# Altium footprint library STM32.pcblib: 4 footprints
Each footprint in its own frame and in the unit in brackets; x right, y up, seen from the top. Pads: shape width x height; smd on the part's side, far side on the other; paste and mask are expansions set on the pad; w line width, h text height; cw(c..) or ccw(c..) is an arc to the next point about the centre after c.
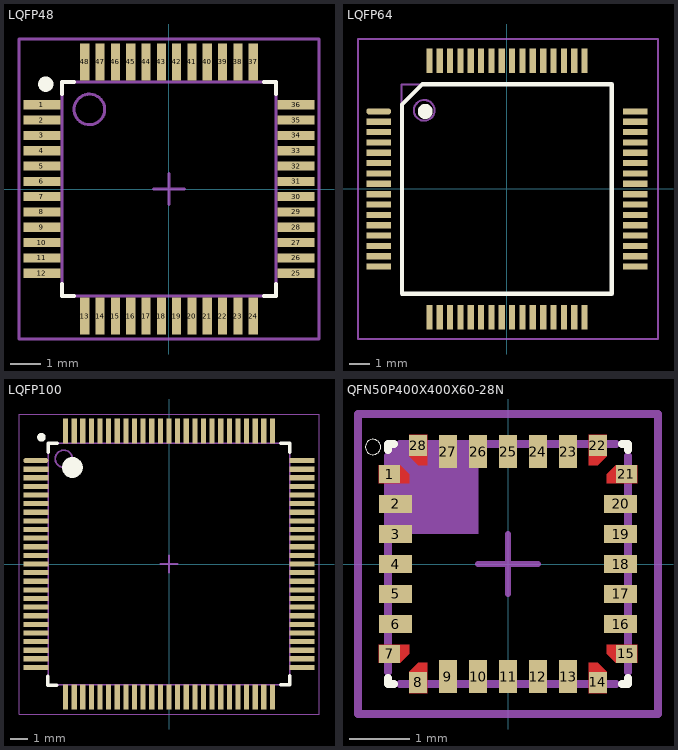
[diagram p0: the footprints below, top view; thin cyan lines are the x and y axes]

## LQFP48 [mm] "LQFP48 – 7 x 7 mm, 48-pin low-profile quad flat  package outline"
height 1.6
pads (48):
  rect 1.2x0.3 smd: 1(-4.152,2.75) 2(-4.152,2.25) 3(-4.152,1.75) 4(-4.152,1.25) 5(-4.152,0.75) 6(-4.152,0.25) 7(-4.152,-0.25) 8(-4.152,-0.75) 9(-4.152,-1.25) 10(-4.152,-1.75) 11(-4.152,-2.25) 12(-4.152,-2.75) 25(4.152,-2.75) 26(4.152,-2.25) 27(4.152,-1.75) 28(4.152,-1.25) 29(4.152,-0.75) 30(4.152,-0.25) 31(4.152,0.25) 32(4.152,0.75) 33(4.152,1.25) 34(4.152,1.75) 35(4.152,2.25) 36(4.152,2.75)
  rect 0.3x1.2 smd: 13(-2.75,-4.152) 14(-2.25,-4.152) 15(-1.75,-4.152) 16(-1.25,-4.152) 17(-0.75,-4.152) 18(-0.25,-4.152) 19(0.25,-4.152) 20(0.75,-4.152) 21(1.25,-4.152) 22(1.75,-4.152) 23(2.25,-4.152) 24(2.75,-4.152) 37(2.75,4.152) 38(2.25,4.152) 39(1.75,4.152) 40(1.25,4.152) 41(0.75,4.152) 42(0.25,4.152) 43(-0.25,4.152) 44(-0.75,4.152) 45(-1.25,4.152) 46(-1.75,4.152) 47(-2.25,4.152) 48(-2.75,4.152)
Top Overlay:
  circle w0.25: c-4.025,3.425 r0.125
  lines w0.125: -3.5,-3.1 -3.5,-3.5 -3.1,-3.5 ; -3.5,3.1 -3.5,3.5 -3.1,3.5 ; 3.1,-3.5 3.5,-3.5 3.5,-3.1 ; 3.1,3.5 3.5,3.5 3.5,3.1
Mechanical 13:
  circle w0.1: c-2.6,2.6 r0.5
  lines w0.1: -3.5,-3.5 3.5,-3.5 3.5,3.5 -3.5,3.5 -3.5,-3.5
Mechanical 15:
  lines w0.1: -0.5,0 0.5,0 ; 0,-0.5 0,0.5 ; -4.9,-4.9 4.9,-4.9 4.9,4.9 -4.9,4.9 -4.9,-4.9
3D body "LQFP-48.STEP": height 1.59, standoff -0.01, extent -4.5,-4.5 4.5,4.5

## LQFP64 [mm]
pads (64):
  oval 1.2x0.3 smd: 1(-6.2,3.75)
  rect 1.2x0.3 smd: 2(-6.2,3.25) 3(-6.2,2.75) 4(-6.2,2.25) 5(-6.2,1.75) 6(-6.2,1.25) 7(-6.2,0.75) 8(-6.2,0.25) 9(-6.2,-0.25) 10(-6.2,-0.75) 11(-6.2,-1.25) 12(-6.2,-1.75) 13(-6.2,-2.25) 14(-6.2,-2.75) 15(-6.2,-3.25) 16(-6.2,-3.75) 33(6.2,-3.75) 34(6.2,-3.25) 35(6.2,-2.75) 36(6.2,-2.25) 37(6.2,-1.75) 38(6.2,-1.25) 39(6.2,-0.75) 40(6.2,-0.25) 41(6.2,0.25) 42(6.2,0.75) 43(6.2,1.25) 44(6.2,1.75) 45(6.2,2.25) 46(6.2,2.75) 47(6.2,3.25) 48(6.2,3.75)
  rect 0.3x1.2 smd: 17(-3.75,-6.2) 18(-3.25,-6.2) 19(-2.75,-6.2) 20(-2.25,-6.2) 21(-1.75,-6.2) 22(-1.25,-6.2) 23(-0.75,-6.2) 24(-0.25,-6.2) 25(0.25,-6.2) 26(0.75,-6.2) 27(1.25,-6.2) 28(1.75,-6.2) 29(2.25,-6.2) 30(2.75,-6.2) 31(3.25,-6.2) 32(3.75,-6.2) 49(3.75,6.2) 50(3.25,6.2) 51(2.75,6.2) 52(2.25,6.2) 53(1.75,6.2) 54(1.25,6.2) 55(0.75,6.2) 56(0.25,6.2) 57(-0.25,6.2) 58(-0.75,6.2) 59(-1.25,6.2) 60(-1.75,6.2) 61(-2.25,6.2) 62(-2.75,6.2) 63(-3.25,6.2) 64(-3.75,6.2)
Top Overlay:
  circle w0.5: c-3.95,3.75 r0.112
  lines w0.2: -5.065,-5.065 -5.065,4.085 -4.085,5.065 5.065,5.065 5.065,-5.065 -5.065,-5.065
Mechanical 13:
  circle w0.1: c-4,3.8 r0.5
  lines w0.1: -5.1,-5.05 5.1,-5.05 5.1,5.05 -5.1,5.05 -5.1,-5.05
Mechanical 15:
  lines w0.1: -7.2,-7.25 -7.2,7.25 7.3,7.25 7.3,-7.25 -7.2,-7.25
3D body "User Library-LQFP64_Grid_0_5.STEP": height 1.6, standoff 0, extent -6,-6 6,6

## LQFP100 [mm] "LQFP, 100-Leads, Body 14,00x14,00mm, Pitch 0,50mm, IPC Medium Density"
height 1.6
pads (100):
  oval 1.45x0.3 smd: 1(-7.725,6)
  rect 1.45x0.3 smd: 2(-7.725,5.5) 3(-7.725,5) 4(-7.725,4.5) 5(-7.725,4) 6(-7.725,3.5) 7(-7.725,3) 8(-7.725,2.5) 9(-7.725,2) 10(-7.725,1.5) 11(-7.725,1) 12(-7.725,0.5) 13(-7.725,0) 14(-7.725,-0.5) 15(-7.725,-1) 16(-7.725,-1.5) 17(-7.725,-2) 18(-7.725,-2.5) 19(-7.725,-3) 20(-7.725,-3.5) 21(-7.725,-4) 22(-7.725,-4.5) 23(-7.725,-5) 24(-7.725,-5.5) 25(-7.725,-6) 51(7.725,-6) 52(7.725,-5.5) 53(7.725,-5) 54(7.725,-4.5) 55(7.725,-4) 56(7.725,-3.5) 57(7.725,-3) 58(7.725,-2.5) 59(7.725,-2) 60(7.725,-1.5) 61(7.725,-1) 62(7.725,-0.5) 63(7.725,0) 64(7.725,0.5) 65(7.725,1) 66(7.725,1.5) 67(7.725,2) 68(7.725,2.5) 69(7.725,3) 70(7.725,3.5) 71(7.725,4) 72(7.725,4.5) 73(7.725,5) 74(7.725,5.5) 75(7.725,6)
  rect 0.3x1.45 smd: 26(-6,-7.725) 27(-5.5,-7.725) 28(-5,-7.725) 29(-4.5,-7.725) 30(-4,-7.725) 31(-3.5,-7.725) 32(-3,-7.725) 33(-2.5,-7.725) 34(-2,-7.725) 35(-1.5,-7.725) 36(-1,-7.725) 37(-0.5,-7.725) 38(0,-7.725) 39(0.5,-7.725) 40(1,-7.725) 41(1.5,-7.725) 42(2,-7.725) 43(2.5,-7.725) 44(3,-7.725) 45(3.5,-7.725) 46(4,-7.725) 47(4.5,-7.725) 48(5,-7.725) 49(5.5,-7.725) 50(6,-7.725) 76(6,7.725) 77(5.5,7.725) 78(5,7.725) 79(4.5,7.725) 80(4,7.725) 81(3.5,7.725) 82(3,7.725) 83(2.5,7.725) 84(2,7.725) 85(1.5,7.725) 86(1,7.725) 87(0.5,7.725) 88(0,7.725) 89(-0.5,7.725) 90(-1,7.725) 91(-1.5,7.725) 92(-2,7.725) 93(-2.5,7.725) 94(-3,7.725) 95(-3.5,7.725) 96(-4,7.725) 97(-4.5,7.725) 98(-5,7.725) 99(-5.5,7.725) 100(-6,7.725)
Top Overlay:
  circle w0.25: c-7.4,7.35 r0.125
  circle w0.6: c-5.6,5.6 r0.3
  lines w0.2: -7.025,-6.5 -7.025,-7.025 -6.5,-7.025 ; -7,6.475 -7,7 -6.475,7 ; 6.475,-7 7,-7 7,-6.475 ; 6.475,7 7,7 7,6.475
Mechanical 13:
  circle w0.1: c-6.1,6.1 r0.5
  lines w0.1: -7,-7 -7,7 7,7 7,-7 -7,-7
Mechanical 15:
  lines w0.05: -8.7,-8.7 -8.7,8.7 8.7,8.7 8.7,-8.7 -8.7,-8.7
  lines w0.1: -0.5,0 0.5,0 ; 0,-0.5 0,0.5
3D body "TSQFP50P1600X1600X160-100N.step": height 1.6, standoff 0, extent -8,-8 8,8

## QFN50P400X400X60-28N [mm]
pads (28):
  rect 0.35x0.3 smd mask+0: 1(-1.975,1.5) 7(-1.975,-1.5) 15(1.975,-1.5) 21(1.975,1.5)
  rect 0.55x0.3 smd mask+0: 2(-1.875,1) 3(-1.875,0.5) 4(-1.875,0) 5(-1.875,-0.5) 6(-1.875,-1) 16(1.875,-1) 17(1.875,-0.5) 18(1.875,0) 19(1.875,0.5) 20(1.875,1)
  rect 0.3x0.35 smd mask+0: 8(-1.5,-1.975) 14(1.5,-1.975) 22(1.5,1.975) 28(-1.5,1.975)
  rect 0.3x0.55 smd mask+0: 9(-1,-1.875) 10(-0.5,-1.875) 11(0,-1.875) 12(0.5,-1.875) 13(1,-1.875) 23(1,1.875) 24(0.5,1.875) 25(0,1.875) 26(-0.5,1.875) 27(-1,1.875)
Top Layer:
  region: -1.65,-1.5 -1.8,-1.65 -2.15,-1.65 -2.15,-1.35 -1.65,-1.35
  region: -1.35,-2.15 -1.65,-2.15 -1.65,-1.8 -1.5,-1.65 -1.35,-1.65
  region: 1.65,-1.8 1.65,-2.15 1.35,-2.15 1.35,-1.65 1.5,-1.65
  region: 2.15,-1.65 1.8,-1.65 1.65,-1.5 1.65,-1.35 2.15,-1.35
  region: 2.15,1.35 1.65,1.35 1.65,1.5 1.8,1.65 2.15,1.65
  region: 1.65,1.8 1.5,1.65 1.35,1.65 1.35,2.15 1.65,2.15
  region: -1.35,1.65 -1.5,1.65 -1.65,1.8 -1.65,2.15 -1.35,2.15
  region: -1.65,1.5 -1.65,1.35 -2.15,1.35 -2.15,1.65 -1.8,1.65
Top Overlay:
  circle w0: c-2.25,1.95 r0.127
  lines w0.127: -2,-1.9 -2,-2 -1.9,-2 ; -2,1.9 -2,2 -1.9,2 ; 1.9,-2 2,-2 2,-1.9 ; 1.9,2 2,2 2,1.9
Top Paste:
  region: -1.65,-1.5 -1.8,-1.65 -1.8,-1.35 -1.65,-1.35
  region: 1.65,-1.8 1.35,-1.8 1.35,-1.65 1.5,-1.65
  region: 1.8,1.35 1.65,1.35 1.65,1.5 1.8,1.65
  region: -1.35,1.65 -1.5,1.65 -1.65,1.8 -1.35,1.8
  region: 1.5,1.65 1.35,1.65 1.35,1.8 1.65,1.8
  region: 1.8,-1.65 1.65,-1.5 1.65,-1.35 1.8,-1.35
  region: -1.35,-1.8 -1.65,-1.8 -1.5,-1.65 -1.35,-1.65
  region: -1.65,1.5 -1.65,1.35 -1.8,1.35 -1.8,1.65
Top Solder:
  drawing of 36 lines, arcs and shapes, not listed
Mechanical 13:
  region: -0.5,0.501 -2.003,0.501 -2.003,2 -0.5,2
  lines w0.127: -2,-1.8 -2,1.8 ; -1.8,-2 1.8,-2 ; -1.8,2 1.8,2 ; 2,-1.8 2,1.8
Mechanical 15:
  lines w0.1: -0.5,0 0.5,0 ; 0,-0.5 0,0.5
  lines w0.127: -2.5,-2.5 -2.5,2.5 2.5,2.5 2.5,-2.5 -2.5,-2.5
3D body "User Library-UFQFPN28.step": height 0.55, standoff -0.03, extent -2.02,-2.01 2,2.01